# Altium footprint library Tractor2000.PcbLib: 12 footprints
Each footprint in its own frame and in the unit in brackets; x right, y up, seen from the top. Pads: shape width x height; smd on the part's side, far side on the other; paste and mask are expansions set on the pad; w line width, h text height; cw(c..) or ccw(c..) is an arc to the next point about the centre after c.
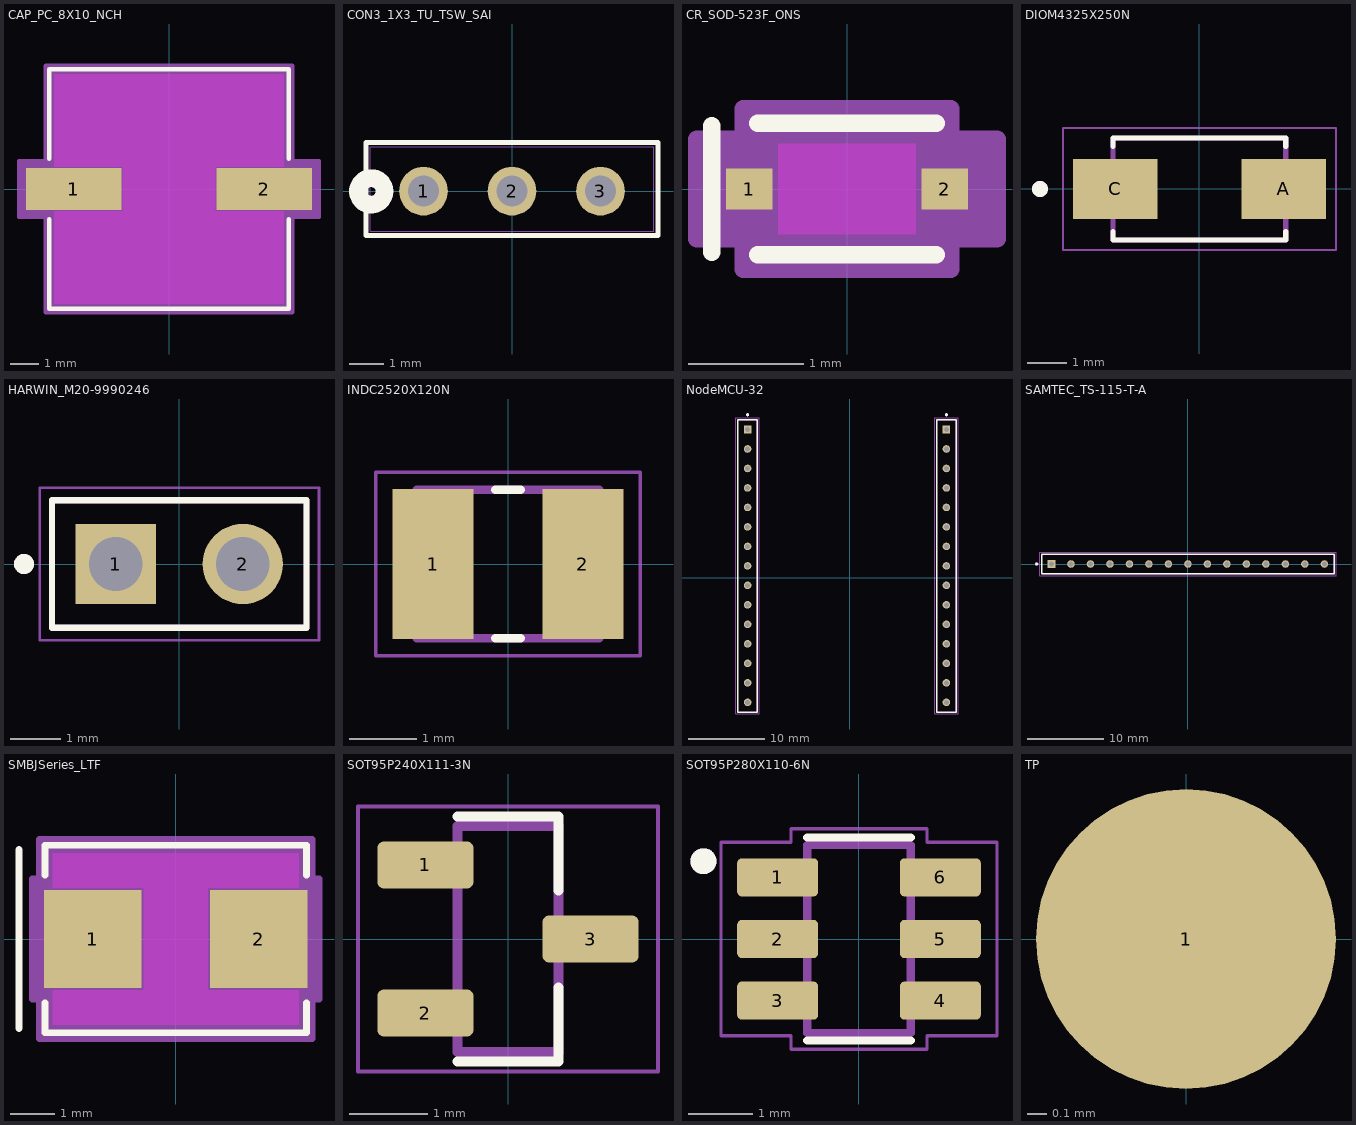
[diagram p0: the footprints below, top view; thin cyan lines are the x and y axes]

## CAP_PC_8X10_NCH [mil]
pads (2):
  rect 134x59 smd paste+0 mask+0: 1(-134,0) 2(134,0)
Top Layer keep-out:
  region: -65,-31.5 -65,31.5 65,31.5 65,-31.5
  region: -161.5,31.5 -161.5,161.5 161.5,161.5 161.5,31.5
  region: -161.5,-161.5 -161.5,-31.5 161.5,-31.5 161.5,-161.5
Top Overlay:
  lines w6: -168.5,-42.6 -168.5,-168.5 168.5,-168.5 168.5,-42.6 ; -168.5,42.6 -168.5,168.5 168.5,168.5 168.5,42.6
Keep-Out Layer:
  region: -65,-31.5 -65,31.5 65,31.5 65,-31.5
Mechanical 13:
  lines w1: -163.5,-81.75 -81.75,-163.5 ; -163.5,81.75 -81.75,163.5 ; -163.5,-163.5 163.5,-163.5 163.5,163.5 -163.5,163.5 -163.5,-163.5
Mechanical 15:
  region: -173.5,-39.5 -211,-39.5 -211,39.5 -173.5,39.5 -173.5,173.5 173.5,173.5 173.5,39.5 211,39.5 211,-39.5 173.5,-39.5 173.5,-173.5 -173.5,-173.5
  lines w6: -211,-39.5 -211,39.5 -173.5,39.5 -173.5,173.5 173.5,173.5 173.5,39.5 211,39.5 211,-39.5 173.5,-39.5 173.5,-173.5 -173.5,-173.5 -173.5,-39.5 -211,-39.5
3D body "CAP_PC_8X10_NCH.step": height 396.1, standoff 0, extent -180.98,-163.5 180.98,163.5

## CON3_1X3_TU_TSW_SAI [mil]
pads (3):
  round 55 hole 35 paste-99999 mask+0: 1(-100,0) 2(0,0) 3(100,0)
Top Overlay:
  circle w20: c-159.06,-0.2 r15
  lines w6: -165,-50 -165,55 165,55 165,-50 -165,-50
Bottom Overlay:
  circle w20: c-159.06,-0.2 r15
Mechanical 13:
  circle w1: c-100,0 r10
  lines w1: -160,-45 160,-45 160,50 -160,50 -160,-45
3D body "CON3_1X3_TU_TSW_SAI.step": height 500, standoff -200, extent -150,-50 150,50

## CR_SOD-523F_ONS [mil]
pads (2):
  rect 15.87x14 smd paste+0 mask+0: 1(-33.44,0) 2(33.44,0)
Top Layer keep-out:
  region: -23.5,-15.5 -23.5,15.5 23.5,15.5 23.5,-15.5
Top Overlay:
  lines w6: -46.26,-21.65 -46.26,21.63 ; -30.5,-22.5 30.5,-22.5 ; -30.5,22.5 30.5,22.5
Keep-Out Layer:
  region: -23.5,-15.5 -23.5,15.5 23.5,15.5 23.5,-15.5
Mechanical 13:
  lines w1: -25.5,-8.75 -16.75,-17.5 ; -25.5,8.75 -16.75,17.5 ; -33.5,-7 -25.5,-7 -25.5,7 -33.5,7 -33.5,-7 ; -25.5,-17.5 -25.5,17.5 25.5,17.5 25.5,-17.5 -25.5,-17.5 ; 25.5,-7 33.5,-7 33.5,7 25.5,7 25.5,-7
  text "*" at -28,-25 h50
Mechanical 15:
  region: -35.5,-17 -51.37,-17 -51.37,17 -35.5,17 -35.5,27.5 35.5,27.5 35.5,17 51.37,17 51.37,-17 35.5,-17 35.5,-27.5 -35.5,-27.5
  lines w6: -51.37,-17 -35.5,-17 -35.5,-27.5 35.5,-27.5 35.5,-17 51.37,-17 51.37,17 35.5,17 35.5,27.5 -35.5,27.5 -35.5,17 -51.37,17 -51.37,-17
3D body "CR_SOD-523F_ONS.step": height 28.27, standoff 0, extent -33.5,-17.48 33.5,17.48

## DIOM4325X250N [mm]
height 2.5
pads (2):
  rect 2.12x1.5 smd paste+0 mask+0.102: A(2.115,0) C(-2.115,0)
Top Overlay:
  circle w0.2: c-4,0 r0.1
  lines w0.127: -2.165,-1.07 -2.165,-1.28 2.165,-1.28 2.165,-1.07 ; -2.165,1.07 -2.165,1.28 2.165,1.28 2.165,1.07
Mechanical 13:
  circle w0.2: c-4,0 r0.1
  lines w0.127: -2.165,-1.28 2.165,-1.28 2.165,1.28 -2.165,1.28 -2.165,-1.28
Mechanical 15:
  lines w0.05: -3.425,-1.53 3.425,-1.53 3.425,1.53 -3.425,1.53 -3.425,-1.53
3D body "step_temp.STEP": height 2.37, standoff 0.2, extent -2.559,-1.356 2.491,1.344

## HARWIN_M20-9990246 [mm]
height 9.64
pads (2):
  rect 1.605x1.605 / inner round 1.605 / far side rect 1.605x1.605 hole 1.07: 1(-1.27,0)
  round 1.605 hole 1.07: 2(1.27,0)
Top Overlay:
  circle w0.2: c-3.1,0 r0.1
  lines w0.127: -2.54,-1.27 -2.54,1.27 2.54,1.27 2.54,-1.27 -2.54,-1.27
Mechanical 13:
  circle w0.2: c-3.1,0 r0.1
  lines w0.127: -2.54,-1.27 -2.54,1.27 2.54,1.27 2.54,-1.27 -2.54,-1.27
Mechanical 15:
  lines w0.05: -2.79,-1.52 -2.79,1.52 2.79,1.52 2.79,-1.52 -2.79,-1.52
3D body "step_temp.STEP": height 8.74, standoff -3, extent -2.54,-1.27 2.54,1.27

## INDC2520X120N [mm]
pads (2):
  rect 1.2x2.22 smd: 1(-1.11,0) 2(1.11,0)
Top Overlay:
  lines w0.127: -0.19,-1.1 0.19,-1.1 ; -0.19,1.1 0.19,1.1
Mechanical 13:
  lines w0.127: -1.35,-1.1 1.35,-1.1 1.35,1.1 -1.35,1.1 -1.35,-1.1
Mechanical 15:
  lines w0.05: -1.958,-1.358 1.958,-1.358 1.958,1.358 -1.958,1.358 -1.958,-1.358
3D body "step_temp.STEP": height 1.2, standoff 0, extent -1.25,-1 1.25,1

## NodeMCU-32 [mm]
pads (30):
  rect 0.985x0.985 / inner round 0.985 / far side rect 0.985x0.985 hole 0.635: 01(-13.339,19.318) 16(12.571,19.318)
  round 0.985 hole 0.635: 02(-13.339,16.778) 03(-13.339,14.238) 04(-13.339,11.698) 05(-13.339,9.158) 06(-13.339,6.618) 07(-13.339,4.078) 08(-13.339,1.538) 09(-13.339,-1.002) 10(-13.339,-3.542) 11(-13.339,-6.082) 12(-13.339,-8.622) 13(-13.339,-11.162) 14(-13.339,-13.702) 15(-13.339,-16.242) 17(12.571,16.778) 18(12.571,14.238) 19(12.571,11.698) 20(12.571,9.158) 21(12.571,6.618) 22(12.571,4.078) 23(12.571,1.538) 24(12.571,-1.002) 25(12.571,-3.542) 26(12.571,-6.082) 27(12.571,-8.622) 28(12.571,-11.162) 29(12.571,-13.702) 30(12.571,-16.242)
Top Overlay:
  circle w0.2: c-13.339,21.238 r0.1
  circle w0.2: c12.571,21.238 r0.1
  lines w0.2: -14.609,-17.512 -14.609,20.588 -12.069,20.588 -12.069,-17.512 -14.609,-17.512 ; 11.301,-17.512 11.301,20.588 13.841,20.588 13.841,-17.512 11.301,-17.512
Mechanical 13:
  circle w0.2: c-13.339,21.238 r0.1
  circle w0.2: c12.571,21.238 r0.1
  lines w0.1: -14.609,-17.512 -12.069,-17.512 ; -14.609,-17.512 -14.609,20.588 ; -14.609,-17.512 -12.069,-17.512 ; -14.609,20.588 -12.069,20.588 ; -14.609,20.588 -12.069,20.588 ; -12.069,-17.512 -12.069,20.588 ; -12.069,-17.512 -12.069,20.588 ; 11.301,-17.512 13.841,-17.512 ; 11.301,-17.512 11.301,20.588 ; 11.301,-17.512 13.841,-17.512 ; 11.301,20.588 13.841,20.588 ; 11.301,20.588 13.841,20.588 ; 13.841,-17.512 13.841,20.588 ; 13.841,-17.512 13.841,20.588
Mechanical 15:
  lines w0.05: -14.859,-17.762 -14.859,20.838 -11.819,20.838 -11.819,-17.762 -14.859,-17.762 ; 11.051,-17.762 11.051,20.838 14.091,20.838 14.091,-17.762 11.051,-17.762

## SAMTEC_TS-115-T-A [mm]
pads (15):
  rect 0.985x0.985 / inner round 0.985 / far side rect 0.985x0.985 hole 0.635: 01(-17.78,0)
  round 0.985 hole 0.635: 02(-15.24,0) 03(-12.7,0) 04(-10.16,0) 05(-7.62,0) 06(-5.08,0) 07(-2.54,0) 08(0,0) 09(2.54,0) 10(5.08,0) 11(7.62,0) 12(10.16,0) 13(12.7,0) 14(15.24,0) 15(17.78,0)
Top Overlay:
  circle w0.2: c-19.7,0 r0.1
  lines w0.2: -19.05,-1.27 -19.05,1.27 19.05,1.27 19.05,-1.27 -19.05,-1.27
Mechanical 13:
  circle w0.2: c-19.7,0 r0.1
  lines w0.1: -19.05,-1.27 -19.05,1.27 ; -19.05,-1.27 19.05,-1.27 ; -19.05,-1.27 -19.05,1.27 ; -19.05,1.27 19.05,1.27 ; -19.05,1.27 19.05,1.27 ; 19.05,-1.27 19.05,1.27 ; 19.05,-1.27 19.05,1.27
Mechanical 15:
  lines w0.05: -19.3,-1.52 -19.3,1.52 19.3,1.52 19.3,-1.52 -19.3,-1.52

## SMBJSeries_LTF [mil]
pads (2):
  rect 86x86 smd paste+0 mask+0: 1(-73,0) 2(73,0)
Top Layer keep-out:
  region: -28,-45 -28,45 28,45 28,-45
  region: -108,45 -108,75.5 108,75.5 108,45
  region: -108,-75.5 -108,-45 108,-45 108,-75.5
Top Overlay:
  lines w6: -137.8,-78.74 -137.8,78.74 ; -115,-56.1 -115,-82.5 115,-82.5 115,-56.1 ; -115,56.1 -115,82.5 115,82.5 115,56.1
Keep-Out Layer:
  region: -28,-45 -28,45 28,45 28,-45
Mechanical 13:
  lines w1: -110,-77.5 110,-77.5 110,77.5 -110,77.5 -110,-77.5
Mechanical 15:
  region: -120,-53 -126,-53 -126,53 -120,53 -120,87.5 120,87.5 120,53 126,53 126,-53 120,-53 120,-87.5 -120,-87.5
  lines w6: -126,-53 -126,53 -120,53 -120,87.5 120,87.5 120,53 126,53 126,-53 120,-53 120,-87.5 -120,-87.5 -120,-53 -126,-53
3D body "SMBJSeries_LTF.step": height 97.99, standoff 0, extent -110,-77.48 110,77.48

## SOT95P240X111-3N [mm]
height 1.11
pads (3):
  rrect25% 1.23x0.6 smd: 1(-1.06,0.95) 2(-1.06,-0.95) 3(1.06,0)
Top Overlay:
  lines w0.127: -0.65,-1.57 0.65,-1.57 0.65,-0.62 ; -0.65,1.57 0.65,1.57 0.65,0.62
Mechanical 13:
  lines w0.127: -0.65,-1.45 0.65,-1.45 0.65,1.45 -0.65,1.45 -0.65,-1.45
Mechanical 15:
  lines w0.05: -1.925,-1.7 -1.925,1.7 1.925,1.7 1.925,-1.7 -1.925,-1.7
3D body "step_temp.STEP": height 1.11, standoff 0, extent -1.2,-1.45 1.2,1.45

## SOT95P280X110-6N [mm]
height 1.1
pads (6):
  rrect25% 1.25x0.59 smd: 1(-1.255,0.95) 2(-1.255,0) 3(-1.255,-0.95) 4(1.255,-0.95) 5(1.255,0) 6(1.255,0.95)
Top Overlay:
  circle w0.2: c-2.4,1.2 r0.1
  lines w0.127: -0.8,-1.565 0.8,-1.565 ; -0.8,1.565 0.8,1.565
Mechanical 13:
  circle w0.2: c-2.4,1.2 r0.1
  lines w0.127: -0.8,-1.45 0.8,-1.45 0.8,1.45 -0.8,1.45 -0.8,-1.45
Mechanical 15:
  lines w0.05: -2.13,-1.495 -1.05,-1.495 -1.05,-1.7 1.05,-1.7 1.05,-1.495 2.13,-1.495 2.13,1.495 1.05,1.495 1.05,1.7 -1.05,1.7 -1.05,1.495 -2.13,1.495 -2.13,-1.495
3D body "step_temp.STEP": height 1.1, standoff 0, extent -1.4,-1.45 1.4,1.45

## TP [mil]
pads (1):
  round 60 smd: 1(0,0)